# Altium schematic symbol library BCX56-16.Schlib: 1 symbol
Pins are listed as number, name and electrical type; pins without a type are passive.

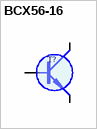
[diagram p0: symbol BCX56-16]

## BCX56-16
designator T?
SOT89     80V 1A 180MHz   6p (BCX53-16)
pins: 1 B, 2 C (oc), 3 E (oe)
1 alternate drawing of the same symbol